# Altium footprint library PcbLib1.PcbLib: 27 footprints (part 2 of 2)
Each footprint in its own frame and in the unit in brackets; x right, y up, seen from the top. Pads: shape width x height; smd on the part's side, far side on the other; paste and mask are expansions set on the pad; w line width, h text height; cw(c..) or ccw(c..) is an arc to the next point about the centre after c.
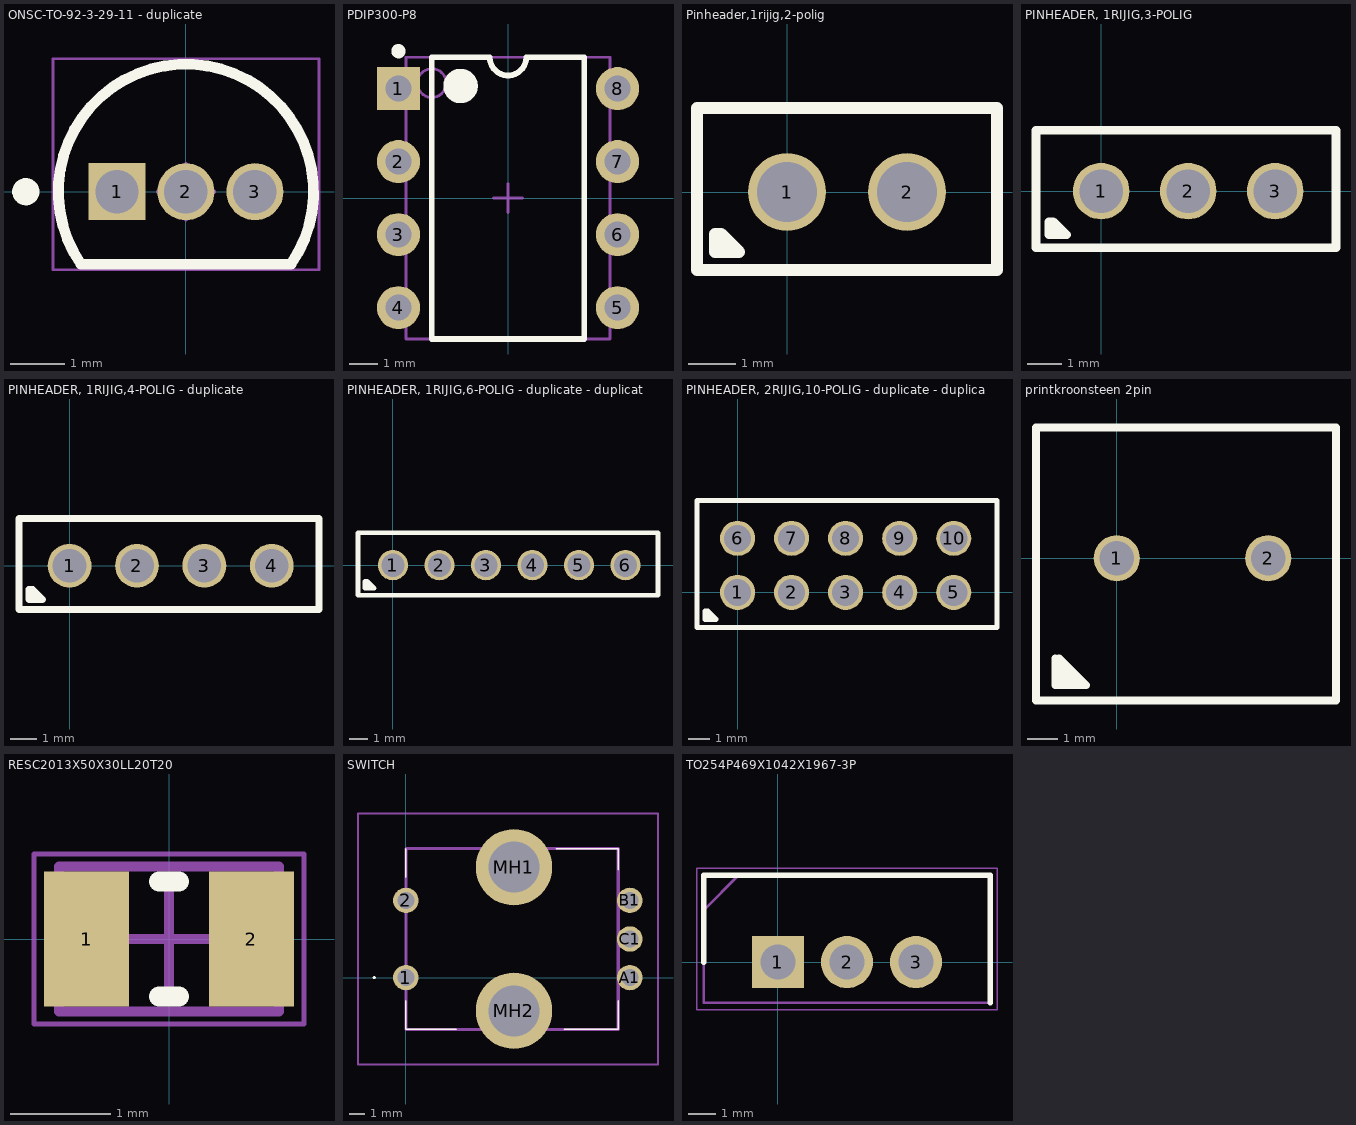
[diagram p1: the footprints below, top view; thin cyan lines are the x and y axes]

## ONSC-TO-92-3-29-11 - duplicate [mm] "TO, 3-Leads, Body Dia 4.7mm, Pitch 1.27mm"
height 7.87
pads (3):
  rect 1.05x1.05 hole 0.8: 1(-1.27,0)
  round 1.05 hole 0.8: 2(0,0) 3(1.27,0)
Top Overlay:
  circle w0.25: c-2.95,0 r0.125
  lines w0.2: -1.934,-1.335 cw(c0,0) 1.934,-1.335 -1.934,-1.335
Mechanical 13:
  lines w0.1: -1.934,-1.335 cw(c0,0) 1.934,-1.335 -1.934,-1.335
Mechanical 15:
  lines w0.05: -2.45,-1.435 2.45,-1.435 2.45,2.45 -2.45,2.45 -2.45,-1.435
  lines w0.1: -0.5,0 0.5,0 ; 0,-0.5 0,0.5
3D body: height 7.87, standoff 2.54, extent -2.349,-1.334 2.357,2.359

## PDIP300-P8 [mm] "8-Pin Plastic Dual In-Line Package (PDIP)"
height 5.34
pads (8):
  rect 1.5x1.5 hole 0.9: 1(-3.81,3.81)
  round 1.5 hole 0.9: 2(-3.81,1.27) 3(-3.81,-1.27) 4(-3.81,-3.81) 5(3.81,-3.81) 6(3.81,-1.27) 7(3.81,1.27) 8(3.81,3.81)
Top Overlay:
  circle w0.6: c-1.65,3.9 r0.3
  circle w0.25: c-3.81,5.11 r0.125
  lines w0.2: -2.65,-4.9 2.65,-4.9 2.65,4.9 0.635,4.9 cw(c0,4.9) -0.635,4.9 -2.65,4.9 -2.65,-4.9
Mechanical 13:
  circle w0.1: c-2.65,4 r0.5
  lines w0.1: -3.55,-4.9 3.55,-4.9 3.55,4.9 -3.55,4.9 -3.55,-4.9
Mechanical 15:
  lines w0.1: -0.5,0 0.5,0 ; 0,-0.5 0,0.5
3D body: height 4.32, standoff 0, extent -3.55,-4.9 3.55,4.9

## Pinheader,1rijig,2-polig [mil]
pads (2):
  round 65 hole 50: 1(0,0) 2(100,0)
Top Overlay:
  lines w10: -52.5,-42.5 -60,-35 ; -60,-35 -60,-50 -40,-50 -55,-35 -60,-35 ; -75,-65 -75,55 -75,70 175,70 175,30 175,-65 -75,-65

## PINHEADER, 1RIJIG,3-POLIG [mil]
pads (3):
  round 65 hole 50: 1(0,0) 2(100,0) 3(200,0)
Top Overlay:
  lines w10: -52.5,-42.5 -60,-35 ; -60,-35 -55,-35 -40,-50 -60,-50 -60,-35 ; -75,-65 270,-65 270,70 -75,70 -75,55 -75,-65

## PINHEADER, 1RIJIG,4-POLIG - duplicate [mil]
pads (4):
  round 65 hole 50: 1(0,0) 2(100,0) 3(200,0) 4(300,0)
Top Overlay:
  lines w10: -52.5,-42.5 -60,-35 ; -60,-35 -55,-35 -40,-50 -60,-50 -60,-35 ; -75,-65 350,-65 370,-65 370,70 340,70 -75,70 -75,55 -75,-65

## PINHEADER, 1RIJIG,6-POLIG - duplicate - duplicate [mil]
pads (6):
  round 65 hole 50: 1(0,0) 2(100,0) 3(200,0) 4(300,0) 5(400,0) 6(500,0)
Top Overlay:
  lines w10: -52.5,-42.5 -60,-35 ; -60,-35 -55,-35 -40,-50 -60,-50 -60,-35 ; -75,-65 350,-65 570,-65 570,70 340,70 -75,70 -75,55 -75,-65

## PINHEADER, 2RIJIG,10-POLIG - duplicate - duplicate - duplicate [mil]
pads (10):
  round 65 hole 50: 1(0,0) 2(100,0) 3(200,0) 4(300,0) 5(400,0) 6(0,100) 7(100,100) 8(200,100) 9(300,100) 10(400,100)
Top Overlay:
  lines w10: -52.5,-42.5 -60,-35 ; -75,170 -70,170 -75,170 ; -75,170 480,170 480,-65 350,-65 -75,-65 -75,55 -75,170 ; -60,-35 -60,-50 -40,-50 -55,-35 -60,-35

## printkroonsteen 2pin [mil]
pads (2):
  round 60 hole 45: 1(0,0) 2(197,0)
Top Overlay:
  lines w10: -80,-130 -80,-165 -40,-165 -75,-130 -75,-155 -55,-155 -50,-160 -67.5,-142.5 -67.5,-152.5 -67.5,-147.5 ; -105,-185 285,-185 285,170 -105,170 -105,-185

## RESC2013X50X30LL20T20 [mm] "Chip Resistor, 2-Leads, Body 2.00x1.25mm, IPC High Density"
height 0.5
pads (2):
  rect 0.85x1.35 smd: 1(-0.825,0) 2(0.825,0)
Top Overlay:
  lines w0.2: -0.1,-0.575 0.1,-0.575 ; -0.1,0.575 0.1,0.575
Mechanical 13:
  lines w0.1: -1.1,-0.725 -1.1,0.725 1.1,0.725 1.1,-0.725 -1.1,-0.725
Mechanical 15:
  lines w0.05: -1.35,-0.85 -1.35,0.85 1.35,0.85 1.35,-0.85 -1.35,-0.85
  lines w0.1: -0.5,0 0.5,0 ; 0,-0.5 0,0.5
3D body: height 0.5, standoff 0, extent -0.8,-0.725 0.8,0.725
3D body: height 0.5, standoff 0, extent -1.1,-0.725 -0.8,0.725
3D body: height 0.5, standoff 0, extent 0.8,-0.725 1.1,0.725

## SWITCH [mm]
pads (7):
  round 1.65 hole 1.1: 1(0,0) 2(0,5) A1(14.5,0) B1(14.5,5) C1(14.5,2.5)
  round 4.95 hole 3.3: MH1(7,7.15) MH2(7,-2.15)
Top Overlay:
  lines w0.1: 0,-1.5 0,-3.35 3.25,-3.35 ; 0,6.5 0,8.35 ; 9.75,8.35 13.75,8.35 13.75,7 ; 10.25,-3.35 13.75,-3.35 13.75,-1.5 ; -2.1,0 ccw(c-2.05,0) -2,0 ccw(c-2.05,0) -2.1,0
Mechanical 13:
  lines w0.2: 0,-3.35 0,8.35 13.75,8.35 13.75,-3.35 0,-3.35
Mechanical 15:
  lines w0.1: -3.1,-5.625 -3.1,10.625 16.325,10.625 16.325,-5.625 -3.1,-5.625
3D body "482009514001.stp": height 26.7, standoff -5, extent -0.45,-3.689 14.95,8.689

## TO254P469X1042X1967-3P [mm]
pads (3):
  rect 1.92x1.92 hole 1.28: 1(0,0)
  round 1.92 hole 1.28: 2(2.54,0) 3(5.08,0)
Top Overlay:
  lines w0.2: -2.73,0 -2.73,3.195 7.81,3.195 7.81,-1.495
Mechanical 13:
  lines w0.1: -2.73,1.925 -1.46,3.195 ; -2.73,-1.495 -2.73,3.195 7.81,3.195 7.81,-1.495 -2.73,-1.495
Mechanical 15:
  lines w0.05: -2.98,-1.745 -2.98,3.445 8.06,3.445 8.06,-1.745 -2.98,-1.745
3D body "IRF9Z34NPBF.stp": height 18.84, standoff -17.51, extent -2.668,-1.495 7.748,3.195